# EAGLE library part USB-FPGA1.2 (library usb-fpga-1)
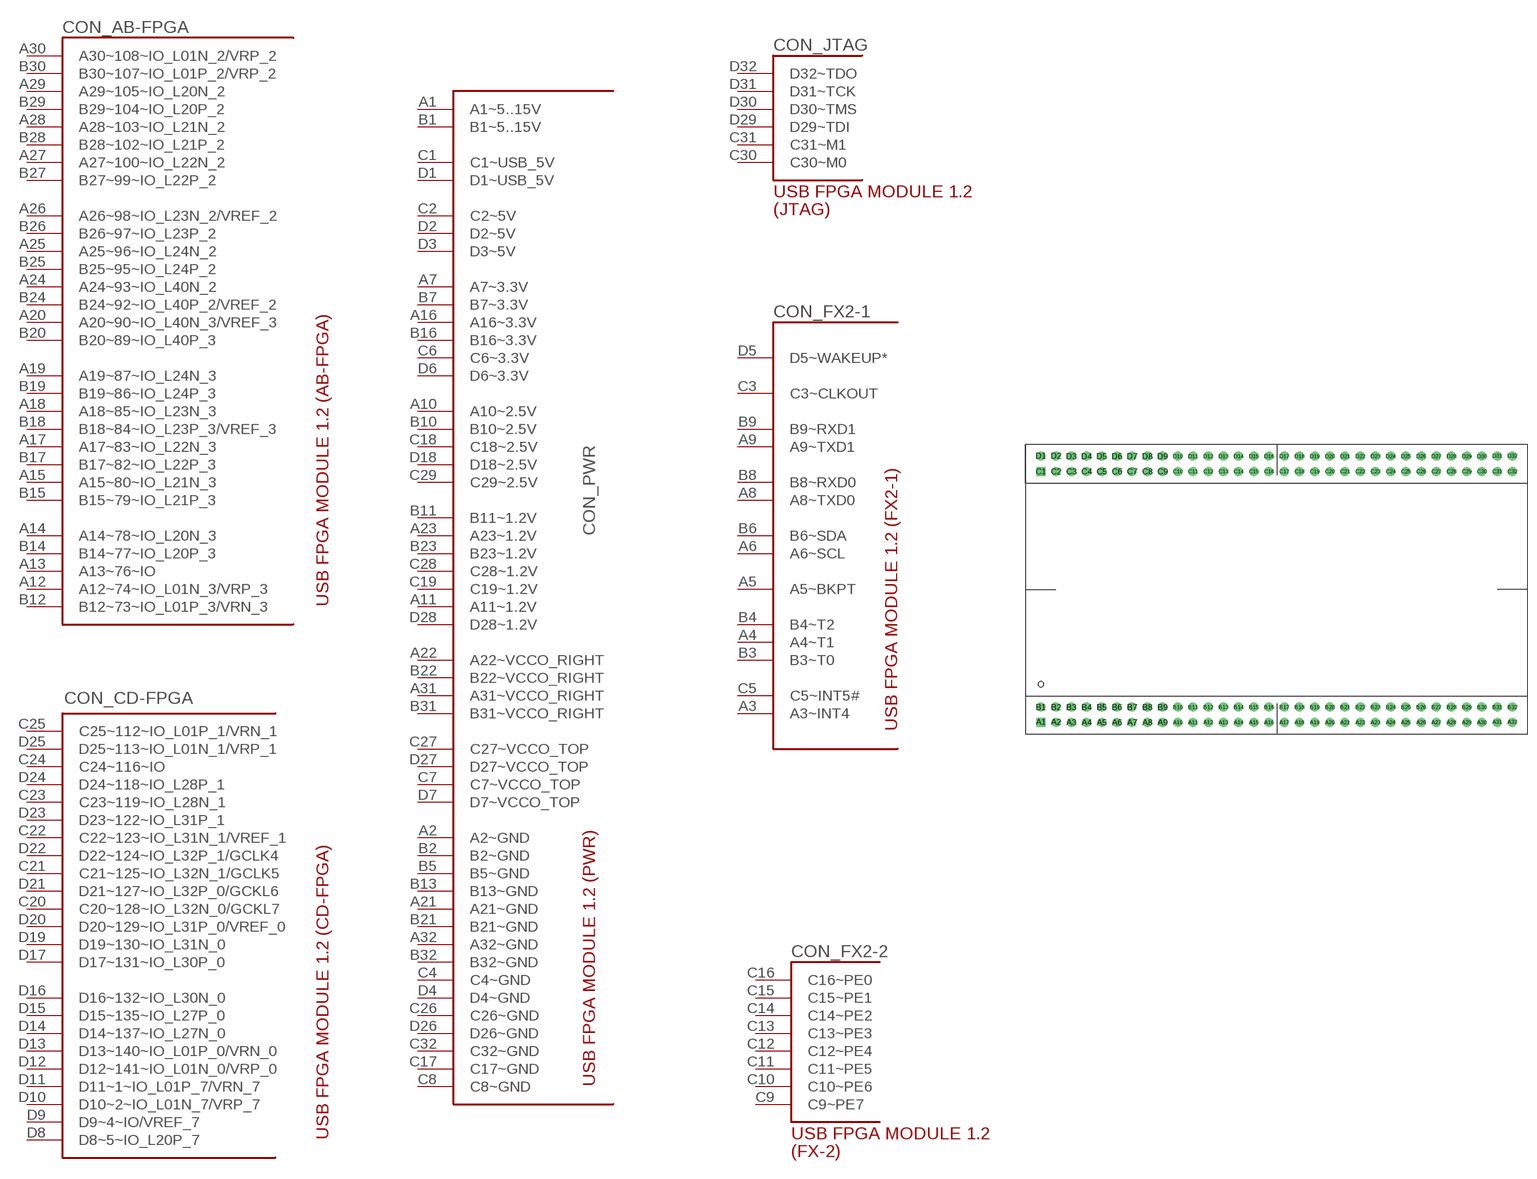
[diagram p0: symbol with the pads of USB-FPGA1.2; footprint USB-FPGA1.2]

Designator prefix CON; gates _JTAG=IO1.2-JTAG _FX2-1=IO1.2-FX2-1 _FX2-2=IO1.2-FX2-2 _PWR=IO1.2-PWR _AB-FPGA=IO1.2-AB-FPGA _CD-FPGA=IO1.2-CD-FPGA

## USB-FPGA1.2  [USB-FPGA1.2]
A1  _PWR:A1~5..15V
A2  _PWR:A2~GND
A3  _FX2-1:A3~INT4
A4  _FX2-1:A4~T1
A5  _FX2-1:A5~BKPT
A6  _FX2-1:A6~SCL
A7  _PWR:A7~3.3V
A8  _FX2-1:A8~TXD0
A9  _FX2-1:A9~TXD1
A10  _PWR:A10~2.5V
A11  _PWR:A11~1.2V
A12  _AB-FPGA:A12~74~IO_L01N_3/VRP_3
A13  _AB-FPGA:A13~76~IO
A14  _AB-FPGA:A14~78~IO_L20N_3
A15  _AB-FPGA:A15~80~IO_L21N_3
A16  _PWR:A16~3.3V
A17  _AB-FPGA:A17~83~IO_L22N_3
A18  _AB-FPGA:A18~85~IO_L23N_3
A19  _AB-FPGA:A19~87~IO_L24N_3
A20  _AB-FPGA:A20~90~IO_L40N_3/VREF_3
A21  _PWR:A21~GND
A22  _PWR:A22~VCCO_RIGHT
A23  _PWR:A23~1.2V
A24  _AB-FPGA:A24~93~IO_L40N_2
A25  _AB-FPGA:A25~96~IO_L24N_2
A26  _AB-FPGA:A26~98~IO_L23N_2/VREF_2
A27  _AB-FPGA:A27~100~IO_L22N_2
A28  _AB-FPGA:A28~103~IO_L21N_2
A29  _AB-FPGA:A29~105~IO_L20N_2
A30  _AB-FPGA:A30~108~IO_L01N_2/VRP_2
A31  _PWR:A31~VCCO_RIGHT
A32  _PWR:A32~GND
B1  _PWR:B1~5..15V
B2  _PWR:B2~GND
B3  _FX2-1:B3~T0
B4  _FX2-1:B4~T2
B5  _PWR:B5~GND
B6  _FX2-1:B6~SDA
B7  _PWR:B7~3.3V
B8  _FX2-1:B8~RXD0
B9  _FX2-1:B9~RXD1
B10  _PWR:B10~2.5V
B11  _PWR:B11~1.2V
B12  _AB-FPGA:B12~73~IO_L01P_3/VRN_3
B13  _PWR:B13~GND
B14  _AB-FPGA:B14~77~IO_L20P_3
B15  _AB-FPGA:B15~79~IO_L21P_3
B16  _PWR:B16~3.3V
B17  _AB-FPGA:B17~82~IO_L22P_3
B18  _AB-FPGA:B18~84~IO_L23P_3/VREF_3
B19  _AB-FPGA:B19~86~IO_L24P_3
B20  _AB-FPGA:B20~89~IO_L40P_3
B21  _PWR:B21~GND
B22  _PWR:B22~VCCO_RIGHT
B23  _PWR:B23~1.2V
B24  _AB-FPGA:B24~92~IO_L40P_2/VREF_2
B25  _AB-FPGA:B25~95~IO_L24P_2
B26  _AB-FPGA:B26~97~IO_L23P_2
B27  _AB-FPGA:B27~99~IO_L22P_2
B28  _AB-FPGA:B28~102~IO_L21P_2
B29  _AB-FPGA:B29~104~IO_L20P_2
B30  _AB-FPGA:B30~107~IO_L01P_2/VRP_2
B31  _PWR:B31~VCCO_RIGHT
B32  _PWR:B32~GND
C1  _PWR:C1~USB_5V
C2  _PWR:C2~5V
C3  _FX2-1:C3~CLKOUT
C4  _PWR:C4~GND
C5  _FX2-1:C5~INT5#
C6  _PWR:C6~3.3V
C7  _PWR:C7~VCCO_TOP
C8  _PWR:C8~GND
C9  _FX2-2:C9~PE7
C10  _FX2-2:C10~PE6
C11  _FX2-2:C11~PE5
C12  _FX2-2:C12~PE4
C13  _FX2-2:C13~PE3
C14  _FX2-2:C14~PE2
C15  _FX2-2:C15~PE1
C16  _FX2-2:C16~PE0
C17  _PWR:C17~GND
C18  _PWR:C18~2.5V
C19  _PWR:C19~1.2V
C20  _CD-FPGA:C20~128~IO_L32N_0/GCKL7
C21  _CD-FPGA:C21~125~IO_L32N_1/GCLK5
C22  _CD-FPGA:C22~123~IO_L31N_1/VREF_1
C23  _CD-FPGA:C23~119~IO_L28N_1
C24  _CD-FPGA:C24~116~IO
C25  _CD-FPGA:C25~112~IO_L01P_1/VRN_1
C26  _PWR:C26~GND
C27  _PWR:C27~VCCO_TOP
C28  _PWR:C28~1.2V
C29  _PWR:C29~2.5V
C30  _JTAG:C30~M0
C31  _JTAG:C31~M1
C32  _PWR:C32~GND
D1  _PWR:D1~USB_5V
D2  _PWR:D2~5V
D3  _PWR:D3~5V
D4  _PWR:D4~GND
D5  _FX2-1:D5~WAKEUP*
D6  _PWR:D6~3.3V
D7  _PWR:D7~VCCO_TOP
D8  _CD-FPGA:D8~5~IO_L20P_7
D9  _CD-FPGA:D9~4~IO/VREF_7
D10  _CD-FPGA:D10~2~IO_L01N_7/VRP_7
D11  _CD-FPGA:D11~1~IO_L01P_7/VRN_7
D12  _CD-FPGA:D12~141~IO_L01N_0/VRP_0
D13  _CD-FPGA:D13~140~IO_L01P_0/VRN_0
D14  _CD-FPGA:D14~137~IO_L27N_0
D15  _CD-FPGA:D15~135~IO_L27P_0
D16  _CD-FPGA:D16~132~IO_L30N_0
D17  _CD-FPGA:D17~131~IO_L30P_0
D18  _PWR:D18~2.5V
D19  _CD-FPGA:D19~130~IO_L31N_0
D20  _CD-FPGA:D20~129~IO_L31P_0/VREF_0
D21  _CD-FPGA:D21~127~IO_L32P_0/GCKL6
D22  _CD-FPGA:D22~124~IO_L32P_1/GCLK4
D23  _CD-FPGA:D23~122~IO_L31P_1
D24  _CD-FPGA:D24~118~IO_L28P_1
D25  _CD-FPGA:D25~113~IO_L01N_1/VRP_1
D26  _PWR:D26~GND
D27  _PWR:D27~VCCO_TOP
D28  _PWR:D28~1.2V
D29  _JTAG:D29~TDI
D30  _JTAG:D30~TMS
D31  _JTAG:D31~TCK
D32  _JTAG:D32~TDO

## Footprint USB-FPGA1.2 (pad centres in mm)
drill 0.925 pad 1.5 square: A1 2.54,1.905
drill 0.925 pad 1.5 round: A2 5.08,1.905; A31 78.74,1.905; A32 81.28,1.905; D1 2.54,46.355; D2 5.08,46.355; D31 78.74,46.355; D32 81.28,46.355
drill 1 pad 1.5 round: A3 7.62,1.905; A4 10.16,1.905; A5 12.7,1.905; A6 15.24,1.905; A7 17.78,1.905; A8 20.32,1.905; A9 22.86,1.905; A10 25.4,1.905; A11 27.94,1.905; A12 30.48,1.905; A13 33.02,1.905; A14 35.56,1.905; A15 38.1,1.905; A16 40.64,1.905; A17 43.18,1.905; A18 45.72,1.905; A19 48.26,1.905; A20 50.8,1.905; A21 53.34,1.905; A22 55.88,1.905; A23 58.42,1.905; A24 60.96,1.905; A25 63.5,1.905; A26 66.04,1.905; A27 68.58,1.905; A28 71.12,1.905; A29 73.66,1.905; A30 76.2,1.905; B1 2.54,4.445; B2 5.08,4.445; B3 7.62,4.445; B4 10.16,4.445; B5 12.7,4.445; B6 15.24,4.445; B7 17.78,4.445; B8 20.32,4.445; B9 22.86,4.445; B10 25.4,4.445; B11 27.94,4.445; B12 30.48,4.445; B13 33.02,4.445; B14 35.56,4.445; B15 38.1,4.445; B16 40.64,4.445; B17 43.18,4.445; B18 45.72,4.445; B19 48.26,4.445; B20 50.8,4.445; B21 53.34,4.445; B22 55.88,4.445; B23 58.42,4.445; B24 60.96,4.445; B25 63.5,4.445; B26 66.04,4.445; B27 68.58,4.445; B28 71.12,4.445; B29 73.66,4.445; B30 76.2,4.445; B31 78.74,4.445; B32 81.28,4.445; C2 5.08,43.815; C3 7.62,43.815; C4 10.16,43.815; C5 12.7,43.815; C6 15.24,43.815; C7 17.78,43.815; C8 20.32,43.815; C9 22.86,43.815; C10 25.4,43.815; C11 27.94,43.815; C12 30.48,43.815; C13 33.02,43.815; C14 35.56,43.815; C15 38.1,43.815; C16 40.64,43.815; C17 43.18,43.815; C18 45.72,43.815; C19 48.26,43.815; C20 50.8,43.815; C21 53.34,43.815; C22 55.88,43.815; C23 58.42,43.815; C24 60.96,43.815; C25 63.5,43.815; C26 66.04,43.815; C27 68.58,43.815; C28 71.12,43.815; C29 73.66,43.815; C30 76.2,43.815; C31 78.74,43.815; C32 81.28,43.815; D3 7.62,46.355; D4 10.16,46.355; D5 12.7,46.355; D6 15.24,46.355; D7 17.78,46.355; D8 20.32,46.355; D9 22.86,46.355; D10 25.4,46.355; D11 27.94,46.355; D12 30.48,46.355; D13 33.02,46.355; D14 35.56,46.355; D15 38.1,46.355; D16 40.64,46.355; D17 43.18,46.355; D18 45.72,46.355; D19 48.26,46.355; D20 50.8,46.355; D21 53.34,46.355; D22 55.88,46.355; D23 58.42,46.355; D24 60.96,46.355; D25 63.5,46.355; D26 66.04,46.355; D27 68.58,46.355; D28 71.12,46.355; D29 73.66,46.355; D30 76.2,46.355
drill 1 pad 1.5 square: C1 2.54,43.815
hole 0.9 at 2.54,8.255